# EAGLE library part RDAC09 (library computronics.com.au)
Common cathode diode array Specifications can be viewed at http://computronics.com.au/module/diodearray/
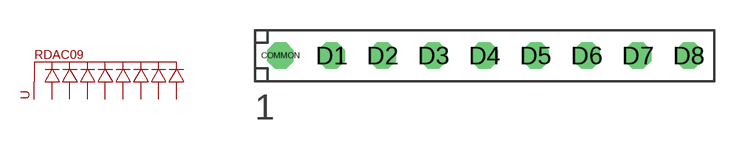
[diagram p2: symbol with the pads of RDA; footprint RDA]

Designator prefix -

## RDAC09"  [RDA]
COMMON  COMMON
D1  D1
D2  D2
D3  D3
D4  D4
D5  D5
D6  D6
D7  D7
D8  D8

## Footprint RDA (pad centres in mm)
SIL Diode arrays
drill 0.813 octagon: COMMON -10.16,0; D1 -7.62,0; D2 -5.08,0; D3 -2.54,0; D4 0,0; D5 2.54,0; D6 5.08,0; D7 7.62,0; D8 10.16,0